# Altium footprint library HR911130C.PcbLib: 1 footprints
Each footprint in its own frame and in the unit in brackets; x right, y up, seen from the top. Pads: shape width x height; smd on the part's side, far side on the other; paste and mask are expansions set on the pad; w line width, h text height; cw(c..) or ccw(c..) is an arc to the next point about the centre after c.
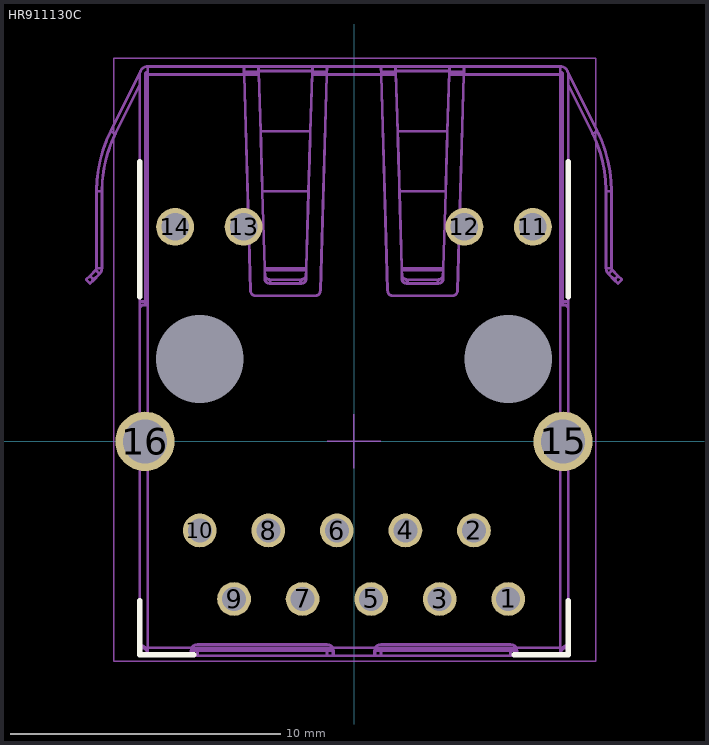
[diagram p0: the footprint, top view; thin cyan lines are the x and y axes]

## HR911130C [mm]
height 13.74
pads (18):
  round 1.25 hole 0.89: 1(5.715,-5.84) 2(4.445,-3.3) 3(3.175,-5.84) 4(1.905,-3.3) 5(0.635,-5.84) 6(-0.635,-3.3) 7(-1.905,-5.84) 8(-3.175,-3.3) 9(-4.445,-5.84) 10(-5.715,-3.3)
  round 1.4 hole 1.02: 11(6.63,7.95) 12(4.09,7.95) 13(-4.09,7.95) 14(-6.63,7.95)
  round 2.2 hole 1.63: 15(7.745,0) 16(-7.745,0)
  round 0 hole 3.25 unplated: H1(5.715,3.05) H2(-5.715,3.05)
Top Overlay:
  lines w0.2: -7.94,-5.9 -7.94,-7.9 -5.94,-7.9 ; -7.94,5.36 -7.94,10.36 ; 5.94,-7.9 7.94,-7.9 7.94,-5.9 ; 7.94,5.36 7.94,10.36
Top Assembly:
  drawing of 1388 lines, arcs and shapes, not listed
  text "2" at 4.2,-3.7 h0.7
  text "1" at 5.6,-6.2 h0.7
  text "10" at -6.4,-3.8 h1.52
  text "9" at -4.7,-6.2 h0.7
Top Courtyard:
  lines w0.05: -8.9,-8.15 8.95,-8.15 8.95,14.2 -8.9,14.2 -8.9,-8.15
Top Designator:
  text ".Designator" at -1,2 h2
Top Component Center:
  lines w0.05: -1,0 1,0 ; 0,-1 0,1
3D body "7499111446.stp": height 15.95, standoff -3.04, extent -9.923,-7.9 9.923,13.94